# EAGLE library part INA826 (library my_library)
Precision Instrumentation Amplifier 200uA, 3V-36V Supply Texas Instruments: http://www.ti.com/lit/ds/symlink/ina826.pdf Digikey: https://www.digikey.com/product-detail/en/texas-instruments/INA826AIDRGR/296-36596-1-ND/4341428
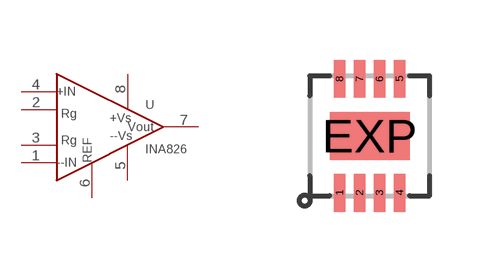
[diagram p5: symbol with the pads of DFN8-3X3; footprint DFN8-3X3]

Designator prefix U

## INA826  [DFN8-3X3]
1  IN-
2  RG
3  RG'
4  IN+
5  VS-
6  REF
7  VOUT
8  VS+

## Footprint DFN8-3X3 (pad centres in mm)
DD Package 8-Lead Plastic DFN (3mm × 3mm) Source: http://cds.linear.com/docs/Datasheet/623012fb.pdf
smd 0.28 x 0.95: 1 -0.75,-1.425; 2 -0.25,-1.425; 3 0.25,-1.425; 4 0.75,-1.425; 5 0.75,1.425; 6 0.25,1.425; 7 -0.25,1.425; 8 -0.75,1.425
smd 2 x 1.2: EXP 0,0